# Altium integrated library Silicon Labs Clocks and Oscillators.IntLib: 678 symbols (part 19 of 45)
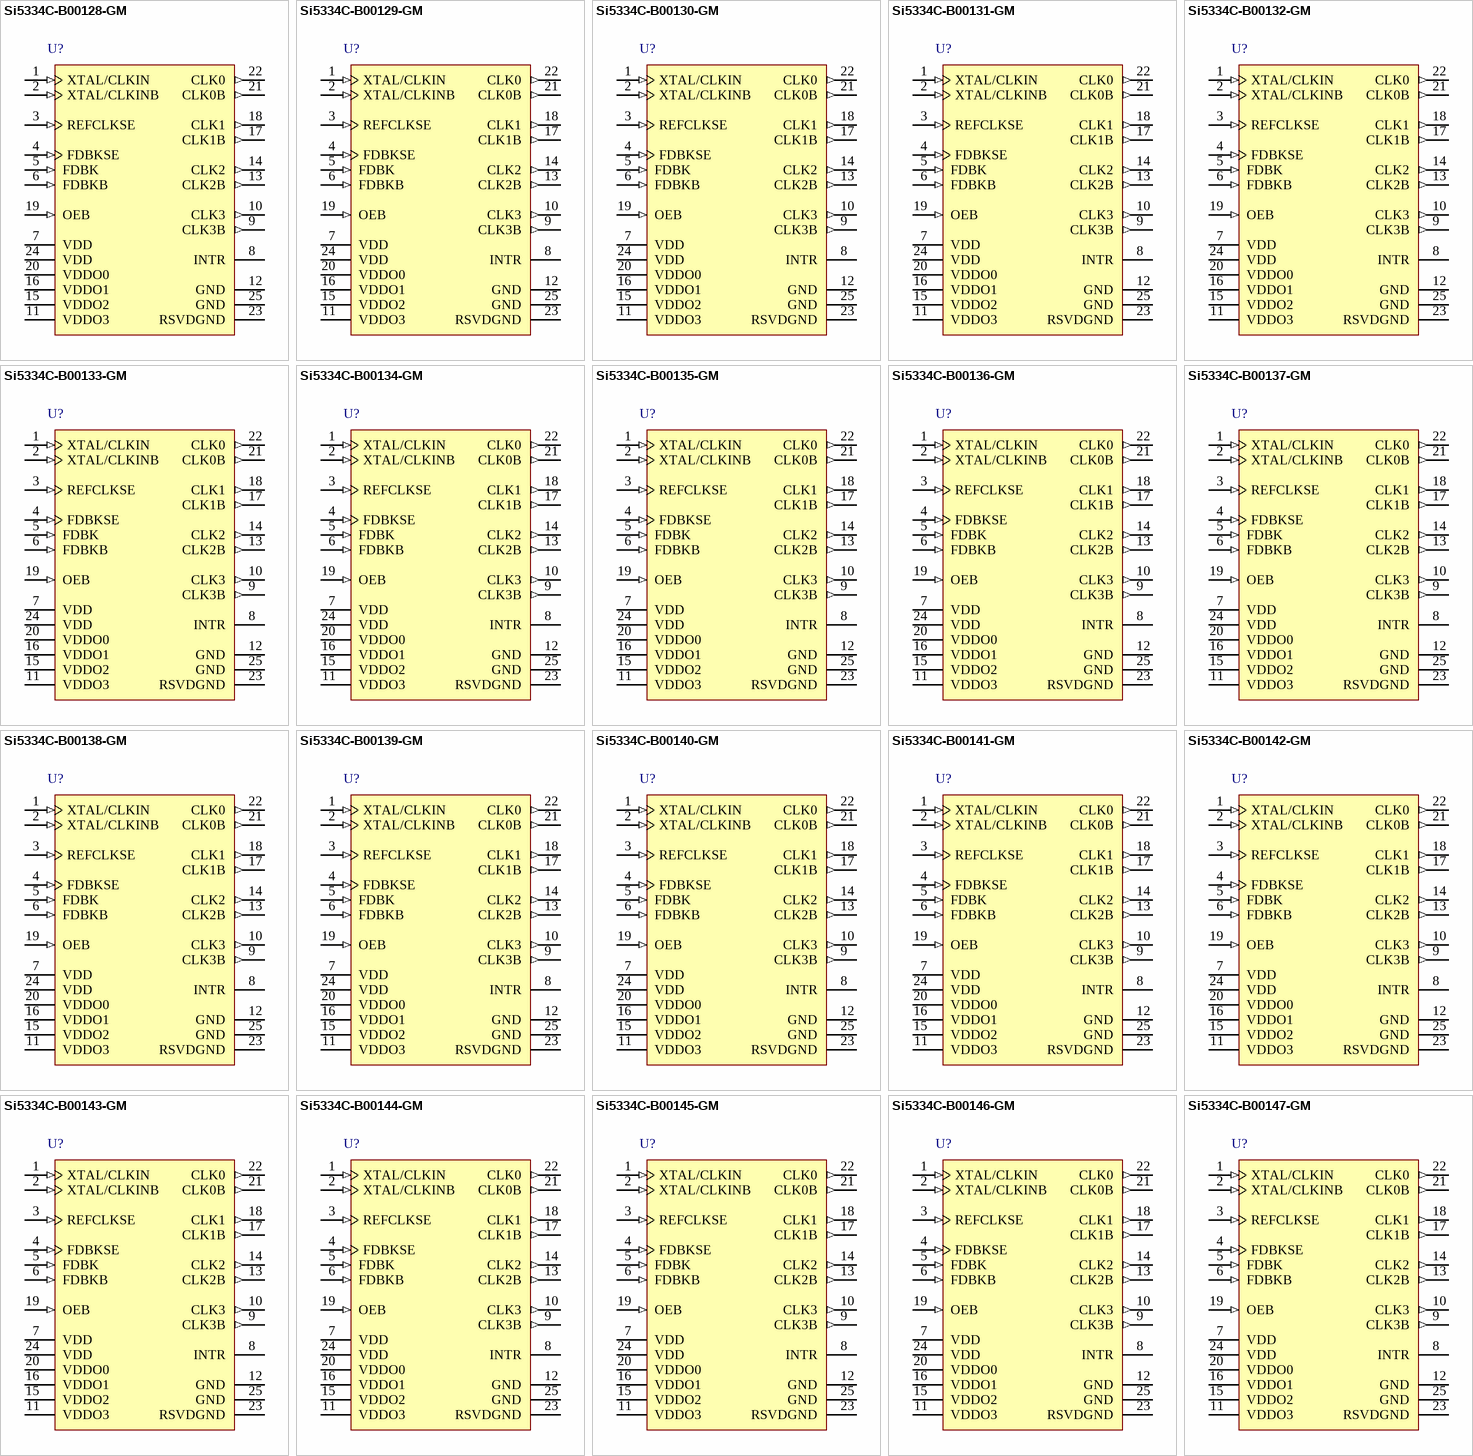
[diagram p62: symbols Si5334C-B00128-GM to Si5334C-B00147-GM]

## Si5334C-B00134-GM
designator U?
Pin-Controlled Any-Frequency, Any-Output Quad Clock Generator, 1.8 / 2.5 / 3.3 V, 0.16 to 200 MHz Output, -40 to 85 degC, 24-pin QFN; Manufacturer: Silicon Labs; PartNumber: Si5334C-B00134-GM; Output Format: LVPECL; LVDS; LVCMOS; HCSL; SSTL; HSTL; Reference Inputs: 1; VDD: 1.8 V; 2.5 V; 3.3 V; Sub-Family: Clock Generators; DatasheetVersion: Rev. 1.1; PackageReference: QFN-24; PackageDescription: 24-Pin Quad-Flat No-Leads Package, Body 4 x 4 mm, Pitch 0.5 mm; Output Frequency (MHz): 0.16 to 200; Mounting Technology: Surface Mount; Code_JEDEC: MO-220; Code_IPC: J-STD-020; ComponentLink1Description: Manufacturer URL; ComponentLink1URL: http://www.silabs.com/; ComponentLink2Description: Datasheet; ComponentLink2URL: http://www.silabs.com/Support%20Documents/TechnicalDocs/Si5334.pdf; ComponentLink3Description: Package Specification; ComponentLink3URL: http://www.silabs.com/Support%20Documents/TechnicalDocs/Si5330.pdf
footprint SLAB-QFN-24-2500x2500TP_N (QFN, 24-Leads, Body 4x4mm, Pitch 0.5mm, Thermal Pad 2.5x2.5mm, IPC Medium Density)
footprint SLAB-QFN-24-2500x2500TP_L (QFN, 24-Leads, Body 4x4mm, Pitch 0.5mm, Thermal Pad 2.5x2.5mm, IPC High Density)
footprint SLAB-QFN-24-2500x2500TP_M (QFN, 24-Leads, Body 4x4mm, Pitch 0.5mm, Thermal Pad 2.5x2.5mm, IPC Low Density)
pins: 1 XTAL/CLKIN (in) "These pins are used as the main differential clock input or as the XTAL input.", 2 XTAL/CLKINB (in) "These pins are used as the main differential clock input or as the XTAL input.", 3 REFCLKSE (in) "High impedance input for single-ended clock signals such as CMOS. The input should be dc-coupled.", 4 FDBKSE (in) "High Impedance input for single-ended clock signals, such as CMOS, when the zero delay mode of operation is required. This input should be dc-coupled.", 5 FDBK (in) "These pins form a differential input for feedback clock signals when a zero delay mode of operation is in effect. Always AC couple into these pins. When not is use leave FDBK unconnected and connect FDBKB to ground.", 6 FDBKB (in) "These pins form a differential input for feedback clock signals when a zero delay mode of operation is in effect. Always AC couple into these pins. When not is use leave FDBK unconnected and connect FDBKB to ground.", 7 VDD (power) "Core Supply Voltage", 8 INTR (oc), 9 CLK3B (out) "Output Clock B for Channel 3", 10 CLK3 (out), 11 VDDO3 (power) "Output Clock Supply Voltage", 12 GND (power) "Ground.", 13 CLK2B (out) "Output Clock B for Channel 2", 14 CLK2 (out), 15 VDDO2 (power) "Output Clock Supply Voltage.", 16 VDDO1 (power) "Output Clock Supply Voltage.", 17 CLK1B (out) "Output Clock B for Channel 1", 18 CLK1 (out), 19 OEB (in) "Output Enable Low", 20 VDDO0 (power) "Output Clock Supply Voltage.", 21 CLK0B (out) "Output Clock B for Channel 0", 22 CLK0 (out), 23 RSVDGND (power) "Ground.", 24 VDD (power) "Core Supply Voltage.", 25 GND (power) "Ground Pad."

## Si5334C-B00135-GM
designator U?
Pin-Controlled Any-Frequency, Any-Output Quad Clock Generator, 1.8 / 2.5 / 3.3 V, 0.16 to 200 MHz Output, -40 to 85 degC, 24-pin QFN; Manufacturer: Silicon Labs; PartNumber: Si5334C-B00135-GM; Output Format: LVPECL; LVDS; LVCMOS; HCSL; SSTL; HSTL; Reference Inputs: 1; VDD: 1.8 V; 2.5 V; 3.3 V; Sub-Family: Clock Generators; DatasheetVersion: Rev. 1.1; PackageReference: QFN-24; PackageDescription: 24-Pin Quad-Flat No-Leads Package, Body 4 x 4 mm, Pitch 0.5 mm; Output Frequency (MHz): 0.16 to 200; Mounting Technology: Surface Mount; Code_JEDEC: MO-220; Code_IPC: J-STD-020; ComponentLink1Description: Manufacturer URL; ComponentLink1URL: http://www.silabs.com/; ComponentLink2Description: Datasheet; ComponentLink2URL: http://www.silabs.com/Support%20Documents/TechnicalDocs/Si5334.pdf; ComponentLink3Description: Package Specification; ComponentLink3URL: http://www.silabs.com/Support%20Documents/TechnicalDocs/Si5330.pdf
footprint SLAB-QFN-24-2500x2500TP_N (QFN, 24-Leads, Body 4x4mm, Pitch 0.5mm, Thermal Pad 2.5x2.5mm, IPC Medium Density)
footprint SLAB-QFN-24-2500x2500TP_L (QFN, 24-Leads, Body 4x4mm, Pitch 0.5mm, Thermal Pad 2.5x2.5mm, IPC High Density)
footprint SLAB-QFN-24-2500x2500TP_M (QFN, 24-Leads, Body 4x4mm, Pitch 0.5mm, Thermal Pad 2.5x2.5mm, IPC Low Density)
pins: 1 XTAL/CLKIN (in) "These pins are used as the main differential clock input or as the XTAL input.", 2 XTAL/CLKINB (in) "These pins are used as the main differential clock input or as the XTAL input.", 3 REFCLKSE (in) "High impedance input for single-ended clock signals such as CMOS. The input should be dc-coupled.", 4 FDBKSE (in) "High Impedance input for single-ended clock signals, such as CMOS, when the zero delay mode of operation is required. This input should be dc-coupled.", 5 FDBK (in) "These pins form a differential input for feedback clock signals when a zero delay mode of operation is in effect. Always AC couple into these pins. When not is use leave FDBK unconnected and connect FDBKB to ground.", 6 FDBKB (in) "These pins form a differential input for feedback clock signals when a zero delay mode of operation is in effect. Always AC couple into these pins. When not is use leave FDBK unconnected and connect FDBKB to ground.", 7 VDD (power) "Core Supply Voltage", 8 INTR (oc), 9 CLK3B (out) "Output Clock B for Channel 3", 10 CLK3 (out), 11 VDDO3 (power) "Output Clock Supply Voltage", 12 GND (power) "Ground.", 13 CLK2B (out) "Output Clock B for Channel 2", 14 CLK2 (out), 15 VDDO2 (power) "Output Clock Supply Voltage.", 16 VDDO1 (power) "Output Clock Supply Voltage.", 17 CLK1B (out) "Output Clock B for Channel 1", 18 CLK1 (out), 19 OEB (in) "Output Enable Low", 20 VDDO0 (power) "Output Clock Supply Voltage.", 21 CLK0B (out) "Output Clock B for Channel 0", 22 CLK0 (out), 23 RSVDGND (power) "Ground.", 24 VDD (power) "Core Supply Voltage.", 25 GND (power) "Ground Pad."

## Si5334C-B00136-GM
designator U?
Pin-Controlled Any-Frequency, Any-Output Quad Clock Generator, 1.8 / 2.5 / 3.3 V, 0.16 to 200 MHz Output, -40 to 85 degC, 24-pin QFN; Manufacturer: Silicon Labs; PartNumber: Si5334C-B00136-GM; Output Format: LVPECL; LVDS; LVCMOS; HCSL; SSTL; HSTL; Reference Inputs: 1; VDD: 1.8 V; 2.5 V; 3.3 V; Sub-Family: Clock Generators; DatasheetVersion: Rev. 1.1; PackageReference: QFN-24; PackageDescription: 24-Pin Quad-Flat No-Leads Package, Body 4 x 4 mm, Pitch 0.5 mm; Output Frequency (MHz): 0.16 to 200; Mounting Technology: Surface Mount; Code_JEDEC: MO-220; Code_IPC: J-STD-020; ComponentLink1Description: Manufacturer URL; ComponentLink1URL: http://www.silabs.com/; ComponentLink2Description: Datasheet; ComponentLink2URL: http://www.silabs.com/Support%20Documents/TechnicalDocs/Si5334.pdf; ComponentLink3Description: Package Specification; ComponentLink3URL: http://www.silabs.com/Support%20Documents/TechnicalDocs/Si5330.pdf
footprint SLAB-QFN-24-2500x2500TP_N (QFN, 24-Leads, Body 4x4mm, Pitch 0.5mm, Thermal Pad 2.5x2.5mm, IPC Medium Density)
footprint SLAB-QFN-24-2500x2500TP_L (QFN, 24-Leads, Body 4x4mm, Pitch 0.5mm, Thermal Pad 2.5x2.5mm, IPC High Density)
footprint SLAB-QFN-24-2500x2500TP_M (QFN, 24-Leads, Body 4x4mm, Pitch 0.5mm, Thermal Pad 2.5x2.5mm, IPC Low Density)
pins: 1 XTAL/CLKIN (in) "These pins are used as the main differential clock input or as the XTAL input.", 2 XTAL/CLKINB (in) "These pins are used as the main differential clock input or as the XTAL input.", 3 REFCLKSE (in) "High impedance input for single-ended clock signals such as CMOS. The input should be dc-coupled.", 4 FDBKSE (in) "High Impedance input for single-ended clock signals, such as CMOS, when the zero delay mode of operation is required. This input should be dc-coupled.", 5 FDBK (in) "These pins form a differential input for feedback clock signals when a zero delay mode of operation is in effect. Always AC couple into these pins. When not is use leave FDBK unconnected and connect FDBKB to ground.", 6 FDBKB (in) "These pins form a differential input for feedback clock signals when a zero delay mode of operation is in effect. Always AC couple into these pins. When not is use leave FDBK unconnected and connect FDBKB to ground.", 7 VDD (power) "Core Supply Voltage", 8 INTR (oc), 9 CLK3B (out) "Output Clock B for Channel 3", 10 CLK3 (out), 11 VDDO3 (power) "Output Clock Supply Voltage", 12 GND (power) "Ground.", 13 CLK2B (out) "Output Clock B for Channel 2", 14 CLK2 (out), 15 VDDO2 (power) "Output Clock Supply Voltage.", 16 VDDO1 (power) "Output Clock Supply Voltage.", 17 CLK1B (out) "Output Clock B for Channel 1", 18 CLK1 (out), 19 OEB (in) "Output Enable Low", 20 VDDO0 (power) "Output Clock Supply Voltage.", 21 CLK0B (out) "Output Clock B for Channel 0", 22 CLK0 (out), 23 RSVDGND (power) "Ground.", 24 VDD (power) "Core Supply Voltage.", 25 GND (power) "Ground Pad."

## Si5334C-B00137-GM
designator U?
Pin-Controlled Any-Frequency, Any-Output Quad Clock Generator, 1.8 / 2.5 / 3.3 V, 0.16 to 200 MHz Output, -40 to 85 degC, 24-pin QFN; Manufacturer: Silicon Labs; PartNumber: Si5334C-B00137-GM; Output Format: LVPECL; LVDS; LVCMOS; HCSL; SSTL; HSTL; Reference Inputs: 1; VDD: 1.8 V; 2.5 V; 3.3 V; Sub-Family: Clock Generators; DatasheetVersion: Rev. 1.1; PackageReference: QFN-24; PackageDescription: 24-Pin Quad-Flat No-Leads Package, Body 4 x 4 mm, Pitch 0.5 mm; Output Frequency (MHz): 0.16 to 200; Mounting Technology: Surface Mount; Code_JEDEC: MO-220; Code_IPC: J-STD-020; ComponentLink1Description: Manufacturer URL; ComponentLink1URL: http://www.silabs.com/; ComponentLink2Description: Datasheet; ComponentLink2URL: http://www.silabs.com/Support%20Documents/TechnicalDocs/Si5334.pdf; ComponentLink3Description: Package Specification; ComponentLink3URL: http://www.silabs.com/Support%20Documents/TechnicalDocs/Si5330.pdf
footprint SLAB-QFN-24-2500x2500TP_N (QFN, 24-Leads, Body 4x4mm, Pitch 0.5mm, Thermal Pad 2.5x2.5mm, IPC Medium Density)
footprint SLAB-QFN-24-2500x2500TP_L (QFN, 24-Leads, Body 4x4mm, Pitch 0.5mm, Thermal Pad 2.5x2.5mm, IPC High Density)
footprint SLAB-QFN-24-2500x2500TP_M (QFN, 24-Leads, Body 4x4mm, Pitch 0.5mm, Thermal Pad 2.5x2.5mm, IPC Low Density)
pins: 1 XTAL/CLKIN (in) "These pins are used as the main differential clock input or as the XTAL input.", 2 XTAL/CLKINB (in) "These pins are used as the main differential clock input or as the XTAL input.", 3 REFCLKSE (in) "High impedance input for single-ended clock signals such as CMOS. The input should be dc-coupled.", 4 FDBKSE (in) "High Impedance input for single-ended clock signals, such as CMOS, when the zero delay mode of operation is required. This input should be dc-coupled.", 5 FDBK (in) "These pins form a differential input for feedback clock signals when a zero delay mode of operation is in effect. Always AC couple into these pins. When not is use leave FDBK unconnected and connect FDBKB to ground.", 6 FDBKB (in) "These pins form a differential input for feedback clock signals when a zero delay mode of operation is in effect. Always AC couple into these pins. When not is use leave FDBK unconnected and connect FDBKB to ground.", 7 VDD (power) "Core Supply Voltage", 8 INTR (oc), 9 CLK3B (out) "Output Clock B for Channel 3", 10 CLK3 (out), 11 VDDO3 (power) "Output Clock Supply Voltage", 12 GND (power) "Ground.", 13 CLK2B (out) "Output Clock B for Channel 2", 14 CLK2 (out), 15 VDDO2 (power) "Output Clock Supply Voltage.", 16 VDDO1 (power) "Output Clock Supply Voltage.", 17 CLK1B (out) "Output Clock B for Channel 1", 18 CLK1 (out), 19 OEB (in) "Output Enable Low", 20 VDDO0 (power) "Output Clock Supply Voltage.", 21 CLK0B (out) "Output Clock B for Channel 0", 22 CLK0 (out), 23 RSVDGND (power) "Ground.", 24 VDD (power) "Core Supply Voltage.", 25 GND (power) "Ground Pad."

## Si5334C-B00138-GM
designator U?
Pin-Controlled Any-Frequency, Any-Output Quad Clock Generator, 1.8 / 2.5 / 3.3 V, 0.16 to 200 MHz Output, -40 to 85 degC, 24-pin QFN; Manufacturer: Silicon Labs; PartNumber: Si5334C-B00138-GM; Output Format: LVPECL; LVDS; LVCMOS; HCSL; SSTL; HSTL; Reference Inputs: 1; VDD: 1.8 V; 2.5 V; 3.3 V; Sub-Family: Clock Generators; DatasheetVersion: Rev. 1.1; PackageReference: QFN-24; PackageDescription: 24-Pin Quad-Flat No-Leads Package, Body 4 x 4 mm, Pitch 0.5 mm; Output Frequency (MHz): 0.16 to 200; Mounting Technology: Surface Mount; Code_JEDEC: MO-220; Code_IPC: J-STD-020; ComponentLink1Description: Manufacturer URL; ComponentLink1URL: http://www.silabs.com/; ComponentLink2Description: Datasheet; ComponentLink2URL: http://www.silabs.com/Support%20Documents/TechnicalDocs/Si5334.pdf; ComponentLink3Description: Package Specification; ComponentLink3URL: http://www.silabs.com/Support%20Documents/TechnicalDocs/Si5330.pdf
footprint SLAB-QFN-24-2500x2500TP_N (QFN, 24-Leads, Body 4x4mm, Pitch 0.5mm, Thermal Pad 2.5x2.5mm, IPC Medium Density)
footprint SLAB-QFN-24-2500x2500TP_L (QFN, 24-Leads, Body 4x4mm, Pitch 0.5mm, Thermal Pad 2.5x2.5mm, IPC High Density)
footprint SLAB-QFN-24-2500x2500TP_M (QFN, 24-Leads, Body 4x4mm, Pitch 0.5mm, Thermal Pad 2.5x2.5mm, IPC Low Density)
pins: 1 XTAL/CLKIN (in) "These pins are used as the main differential clock input or as the XTAL input.", 2 XTAL/CLKINB (in) "These pins are used as the main differential clock input or as the XTAL input.", 3 REFCLKSE (in) "High impedance input for single-ended clock signals such as CMOS. The input should be dc-coupled.", 4 FDBKSE (in) "High Impedance input for single-ended clock signals, such as CMOS, when the zero delay mode of operation is required. This input should be dc-coupled.", 5 FDBK (in) "These pins form a differential input for feedback clock signals when a zero delay mode of operation is in effect. Always AC couple into these pins. When not is use leave FDBK unconnected and connect FDBKB to ground.", 6 FDBKB (in) "These pins form a differential input for feedback clock signals when a zero delay mode of operation is in effect. Always AC couple into these pins. When not is use leave FDBK unconnected and connect FDBKB to ground.", 7 VDD (power) "Core Supply Voltage", 8 INTR (oc), 9 CLK3B (out) "Output Clock B for Channel 3", 10 CLK3 (out), 11 VDDO3 (power) "Output Clock Supply Voltage", 12 GND (power) "Ground.", 13 CLK2B (out) "Output Clock B for Channel 2", 14 CLK2 (out), 15 VDDO2 (power) "Output Clock Supply Voltage.", 16 VDDO1 (power) "Output Clock Supply Voltage.", 17 CLK1B (out) "Output Clock B for Channel 1", 18 CLK1 (out), 19 OEB (in) "Output Enable Low", 20 VDDO0 (power) "Output Clock Supply Voltage.", 21 CLK0B (out) "Output Clock B for Channel 0", 22 CLK0 (out), 23 RSVDGND (power) "Ground.", 24 VDD (power) "Core Supply Voltage.", 25 GND (power) "Ground Pad."

## Si5334C-B00139-GM
designator U?
Pin-Controlled Any-Frequency, Any-Output Quad Clock Generator, 1.8 / 2.5 / 3.3 V, 0.16 to 200 MHz Output, -40 to 85 degC, 24-pin QFN; Manufacturer: Silicon Labs; PartNumber: Si5334C-B00139-GM; Output Format: LVPECL; LVDS; LVCMOS; HCSL; SSTL; HSTL; Reference Inputs: 1; VDD: 1.8 V; 2.5 V; 3.3 V; Sub-Family: Clock Generators; DatasheetVersion: Rev. 1.1; PackageReference: QFN-24; PackageDescription: 24-Pin Quad-Flat No-Leads Package, Body 4 x 4 mm, Pitch 0.5 mm; Output Frequency (MHz): 0.16 to 200; Mounting Technology: Surface Mount; Code_JEDEC: MO-220; Code_IPC: J-STD-020; ComponentLink1Description: Manufacturer URL; ComponentLink1URL: http://www.silabs.com/; ComponentLink2Description: Datasheet; ComponentLink2URL: http://www.silabs.com/Support%20Documents/TechnicalDocs/Si5334.pdf; ComponentLink3Description: Package Specification; ComponentLink3URL: http://www.silabs.com/Support%20Documents/TechnicalDocs/Si5330.pdf
footprint SLAB-QFN-24-2500x2500TP_N (QFN, 24-Leads, Body 4x4mm, Pitch 0.5mm, Thermal Pad 2.5x2.5mm, IPC Medium Density)
footprint SLAB-QFN-24-2500x2500TP_L (QFN, 24-Leads, Body 4x4mm, Pitch 0.5mm, Thermal Pad 2.5x2.5mm, IPC High Density)
footprint SLAB-QFN-24-2500x2500TP_M (QFN, 24-Leads, Body 4x4mm, Pitch 0.5mm, Thermal Pad 2.5x2.5mm, IPC Low Density)
pins: 1 XTAL/CLKIN (in) "These pins are used as the main differential clock input or as the XTAL input.", 2 XTAL/CLKINB (in) "These pins are used as the main differential clock input or as the XTAL input.", 3 REFCLKSE (in) "High impedance input for single-ended clock signals such as CMOS. The input should be dc-coupled.", 4 FDBKSE (in) "High Impedance input for single-ended clock signals, such as CMOS, when the zero delay mode of operation is required. This input should be dc-coupled.", 5 FDBK (in) "These pins form a differential input for feedback clock signals when a zero delay mode of operation is in effect. Always AC couple into these pins. When not is use leave FDBK unconnected and connect FDBKB to ground.", 6 FDBKB (in) "These pins form a differential input for feedback clock signals when a zero delay mode of operation is in effect. Always AC couple into these pins. When not is use leave FDBK unconnected and connect FDBKB to ground.", 7 VDD (power) "Core Supply Voltage", 8 INTR (oc), 9 CLK3B (out) "Output Clock B for Channel 3", 10 CLK3 (out), 11 VDDO3 (power) "Output Clock Supply Voltage", 12 GND (power) "Ground.", 13 CLK2B (out) "Output Clock B for Channel 2", 14 CLK2 (out), 15 VDDO2 (power) "Output Clock Supply Voltage.", 16 VDDO1 (power) "Output Clock Supply Voltage.", 17 CLK1B (out) "Output Clock B for Channel 1", 18 CLK1 (out), 19 OEB (in) "Output Enable Low", 20 VDDO0 (power) "Output Clock Supply Voltage.", 21 CLK0B (out) "Output Clock B for Channel 0", 22 CLK0 (out), 23 RSVDGND (power) "Ground.", 24 VDD (power) "Core Supply Voltage.", 25 GND (power) "Ground Pad."

## Si5334C-B00140-GM
designator U?
Pin-Controlled Any-Frequency, Any-Output Quad Clock Generator, 1.8 / 2.5 / 3.3 V, 0.16 to 200 MHz Output, -40 to 85 degC, 24-pin QFN; Manufacturer: Silicon Labs; PartNumber: Si5334C-B00140-GM; Output Format: LVPECL; LVDS; LVCMOS; HCSL; SSTL; HSTL; Reference Inputs: 1; VDD: 1.8 V; 2.5 V; 3.3 V; Sub-Family: Clock Generators; DatasheetVersion: Rev. 1.1; PackageReference: QFN-24; PackageDescription: 24-Pin Quad-Flat No-Leads Package, Body 4 x 4 mm, Pitch 0.5 mm; Output Frequency (MHz): 0.16 to 200; Mounting Technology: Surface Mount; Code_JEDEC: MO-220; Code_IPC: J-STD-020; ComponentLink1Description: Manufacturer URL; ComponentLink1URL: http://www.silabs.com/; ComponentLink2Description: Datasheet; ComponentLink2URL: http://www.silabs.com/Support%20Documents/TechnicalDocs/Si5334.pdf; ComponentLink3Description: Package Specification; ComponentLink3URL: http://www.silabs.com/Support%20Documents/TechnicalDocs/Si5330.pdf
footprint SLAB-QFN-24-2500x2500TP_N (QFN, 24-Leads, Body 4x4mm, Pitch 0.5mm, Thermal Pad 2.5x2.5mm, IPC Medium Density)
footprint SLAB-QFN-24-2500x2500TP_L (QFN, 24-Leads, Body 4x4mm, Pitch 0.5mm, Thermal Pad 2.5x2.5mm, IPC High Density)
footprint SLAB-QFN-24-2500x2500TP_M (QFN, 24-Leads, Body 4x4mm, Pitch 0.5mm, Thermal Pad 2.5x2.5mm, IPC Low Density)
pins: 1 XTAL/CLKIN (in) "These pins are used as the main differential clock input or as the XTAL input.", 2 XTAL/CLKINB (in) "These pins are used as the main differential clock input or as the XTAL input.", 3 REFCLKSE (in) "High impedance input for single-ended clock signals such as CMOS. The input should be dc-coupled.", 4 FDBKSE (in) "High Impedance input for single-ended clock signals, such as CMOS, when the zero delay mode of operation is required. This input should be dc-coupled.", 5 FDBK (in) "These pins form a differential input for feedback clock signals when a zero delay mode of operation is in effect. Always AC couple into these pins. When not is use leave FDBK unconnected and connect FDBKB to ground.", 6 FDBKB (in) "These pins form a differential input for feedback clock signals when a zero delay mode of operation is in effect. Always AC couple into these pins. When not is use leave FDBK unconnected and connect FDBKB to ground.", 7 VDD (power) "Core Supply Voltage", 8 INTR (oc), 9 CLK3B (out) "Output Clock B for Channel 3", 10 CLK3 (out), 11 VDDO3 (power) "Output Clock Supply Voltage", 12 GND (power) "Ground.", 13 CLK2B (out) "Output Clock B for Channel 2", 14 CLK2 (out), 15 VDDO2 (power) "Output Clock Supply Voltage.", 16 VDDO1 (power) "Output Clock Supply Voltage.", 17 CLK1B (out) "Output Clock B for Channel 1", 18 CLK1 (out), 19 OEB (in) "Output Enable Low", 20 VDDO0 (power) "Output Clock Supply Voltage.", 21 CLK0B (out) "Output Clock B for Channel 0", 22 CLK0 (out), 23 RSVDGND (power) "Ground.", 24 VDD (power) "Core Supply Voltage.", 25 GND (power) "Ground Pad."

## Si5334C-B00141-GM
designator U?
Pin-Controlled Any-Frequency, Any-Output Quad Clock Generator, 1.8 / 2.5 / 3.3 V, 0.16 to 200 MHz Output, -40 to 85 degC, 24-pin QFN; Manufacturer: Silicon Labs; PartNumber: Si5334C-B00141-GM; Output Format: LVPECL; LVDS; LVCMOS; HCSL; SSTL; HSTL; Reference Inputs: 1; VDD: 1.8 V; 2.5 V; 3.3 V; Sub-Family: Clock Generators; DatasheetVersion: Rev. 1.1; PackageReference: QFN-24; PackageDescription: 24-Pin Quad-Flat No-Leads Package, Body 4 x 4 mm, Pitch 0.5 mm; Output Frequency (MHz): 0.16 to 200; Mounting Technology: Surface Mount; Code_JEDEC: MO-220; Code_IPC: J-STD-020; ComponentLink1Description: Manufacturer URL; ComponentLink1URL: http://www.silabs.com/; ComponentLink2Description: Datasheet; ComponentLink2URL: http://www.silabs.com/Support%20Documents/TechnicalDocs/Si5334.pdf; ComponentLink3Description: Package Specification; ComponentLink3URL: http://www.silabs.com/Support%20Documents/TechnicalDocs/Si5330.pdf
footprint SLAB-QFN-24-2500x2500TP_N (QFN, 24-Leads, Body 4x4mm, Pitch 0.5mm, Thermal Pad 2.5x2.5mm, IPC Medium Density)
footprint SLAB-QFN-24-2500x2500TP_L (QFN, 24-Leads, Body 4x4mm, Pitch 0.5mm, Thermal Pad 2.5x2.5mm, IPC High Density)
footprint SLAB-QFN-24-2500x2500TP_M (QFN, 24-Leads, Body 4x4mm, Pitch 0.5mm, Thermal Pad 2.5x2.5mm, IPC Low Density)
pins: 1 XTAL/CLKIN (in) "These pins are used as the main differential clock input or as the XTAL input.", 2 XTAL/CLKINB (in) "These pins are used as the main differential clock input or as the XTAL input.", 3 REFCLKSE (in) "High impedance input for single-ended clock signals such as CMOS. The input should be dc-coupled.", 4 FDBKSE (in) "High Impedance input for single-ended clock signals, such as CMOS, when the zero delay mode of operation is required. This input should be dc-coupled.", 5 FDBK (in) "These pins form a differential input for feedback clock signals when a zero delay mode of operation is in effect. Always AC couple into these pins. When not is use leave FDBK unconnected and connect FDBKB to ground.", 6 FDBKB (in) "These pins form a differential input for feedback clock signals when a zero delay mode of operation is in effect. Always AC couple into these pins. When not is use leave FDBK unconnected and connect FDBKB to ground.", 7 VDD (power) "Core Supply Voltage", 8 INTR (oc), 9 CLK3B (out) "Output Clock B for Channel 3", 10 CLK3 (out), 11 VDDO3 (power) "Output Clock Supply Voltage", 12 GND (power) "Ground.", 13 CLK2B (out) "Output Clock B for Channel 2", 14 CLK2 (out), 15 VDDO2 (power) "Output Clock Supply Voltage.", 16 VDDO1 (power) "Output Clock Supply Voltage.", 17 CLK1B (out) "Output Clock B for Channel 1", 18 CLK1 (out), 19 OEB (in) "Output Enable Low", 20 VDDO0 (power) "Output Clock Supply Voltage.", 21 CLK0B (out) "Output Clock B for Channel 0", 22 CLK0 (out), 23 RSVDGND (power) "Ground.", 24 VDD (power) "Core Supply Voltage.", 25 GND (power) "Ground Pad."

## Si5334C-B00142-GM
designator U?
Pin-Controlled Any-Frequency, Any-Output Quad Clock Generator, 1.8 / 2.5 / 3.3 V, 0.16 to 200 MHz Output, -40 to 85 degC, 24-pin QFN; Manufacturer: Silicon Labs; PartNumber: Si5334C-B00142-GM; Output Format: LVPECL; LVDS; LVCMOS; HCSL; SSTL; HSTL; Reference Inputs: 1; VDD: 1.8 V; 2.5 V; 3.3 V; Sub-Family: Clock Generators; DatasheetVersion: Rev. 1.1; PackageReference: QFN-24; PackageDescription: 24-Pin Quad-Flat No-Leads Package, Body 4 x 4 mm, Pitch 0.5 mm; Output Frequency (MHz): 0.16 to 200; Mounting Technology: Surface Mount; Code_JEDEC: MO-220; Code_IPC: J-STD-020; ComponentLink1Description: Manufacturer URL; ComponentLink1URL: http://www.silabs.com/; ComponentLink2Description: Datasheet; ComponentLink2URL: http://www.silabs.com/Support%20Documents/TechnicalDocs/Si5334.pdf; ComponentLink3Description: Package Specification; ComponentLink3URL: http://www.silabs.com/Support%20Documents/TechnicalDocs/Si5330.pdf
footprint SLAB-QFN-24-2500x2500TP_N (QFN, 24-Leads, Body 4x4mm, Pitch 0.5mm, Thermal Pad 2.5x2.5mm, IPC Medium Density)
footprint SLAB-QFN-24-2500x2500TP_L (QFN, 24-Leads, Body 4x4mm, Pitch 0.5mm, Thermal Pad 2.5x2.5mm, IPC High Density)
footprint SLAB-QFN-24-2500x2500TP_M (QFN, 24-Leads, Body 4x4mm, Pitch 0.5mm, Thermal Pad 2.5x2.5mm, IPC Low Density)
pins: 1 XTAL/CLKIN (in) "These pins are used as the main differential clock input or as the XTAL input.", 2 XTAL/CLKINB (in) "These pins are used as the main differential clock input or as the XTAL input.", 3 REFCLKSE (in) "High impedance input for single-ended clock signals such as CMOS. The input should be dc-coupled.", 4 FDBKSE (in) "High Impedance input for single-ended clock signals, such as CMOS, when the zero delay mode of operation is required. This input should be dc-coupled.", 5 FDBK (in) "These pins form a differential input for feedback clock signals when a zero delay mode of operation is in effect. Always AC couple into these pins. When not is use leave FDBK unconnected and connect FDBKB to ground.", 6 FDBKB (in) "These pins form a differential input for feedback clock signals when a zero delay mode of operation is in effect. Always AC couple into these pins. When not is use leave FDBK unconnected and connect FDBKB to ground.", 7 VDD (power) "Core Supply Voltage", 8 INTR (oc), 9 CLK3B (out) "Output Clock B for Channel 3", 10 CLK3 (out), 11 VDDO3 (power) "Output Clock Supply Voltage", 12 GND (power) "Ground.", 13 CLK2B (out) "Output Clock B for Channel 2", 14 CLK2 (out), 15 VDDO2 (power) "Output Clock Supply Voltage.", 16 VDDO1 (power) "Output Clock Supply Voltage.", 17 CLK1B (out) "Output Clock B for Channel 1", 18 CLK1 (out), 19 OEB (in) "Output Enable Low", 20 VDDO0 (power) "Output Clock Supply Voltage.", 21 CLK0B (out) "Output Clock B for Channel 0", 22 CLK0 (out), 23 RSVDGND (power) "Ground.", 24 VDD (power) "Core Supply Voltage.", 25 GND (power) "Ground Pad."

## Si5334C-B00143-GM
designator U?
Pin-Controlled Any-Frequency, Any-Output Quad Clock Generator, 1.8 / 2.5 / 3.3 V, 0.16 to 200 MHz Output, -40 to 85 degC, 24-pin QFN; Manufacturer: Silicon Labs; PartNumber: Si5334C-B00143-GM; Output Format: LVPECL; LVDS; LVCMOS; HCSL; SSTL; HSTL; Reference Inputs: 1; VDD: 1.8 V; 2.5 V; 3.3 V; Sub-Family: Clock Generators; DatasheetVersion: Rev. 1.1; PackageReference: QFN-24; PackageDescription: 24-Pin Quad-Flat No-Leads Package, Body 4 x 4 mm, Pitch 0.5 mm; Output Frequency (MHz): 0.16 to 200; Mounting Technology: Surface Mount; Code_JEDEC: MO-220; Code_IPC: J-STD-020; ComponentLink1Description: Manufacturer URL; ComponentLink1URL: http://www.silabs.com/; ComponentLink2Description: Datasheet; ComponentLink2URL: http://www.silabs.com/Support%20Documents/TechnicalDocs/Si5334.pdf; ComponentLink3Description: Package Specification; ComponentLink3URL: http://www.silabs.com/Support%20Documents/TechnicalDocs/Si5330.pdf
footprint SLAB-QFN-24-2500x2500TP_N (QFN, 24-Leads, Body 4x4mm, Pitch 0.5mm, Thermal Pad 2.5x2.5mm, IPC Medium Density)
footprint SLAB-QFN-24-2500x2500TP_L (QFN, 24-Leads, Body 4x4mm, Pitch 0.5mm, Thermal Pad 2.5x2.5mm, IPC High Density)
footprint SLAB-QFN-24-2500x2500TP_M (QFN, 24-Leads, Body 4x4mm, Pitch 0.5mm, Thermal Pad 2.5x2.5mm, IPC Low Density)
pins: 1 XTAL/CLKIN (in) "These pins are used as the main differential clock input or as the XTAL input.", 2 XTAL/CLKINB (in) "These pins are used as the main differential clock input or as the XTAL input.", 3 REFCLKSE (in) "High impedance input for single-ended clock signals such as CMOS. The input should be dc-coupled.", 4 FDBKSE (in) "High Impedance input for single-ended clock signals, such as CMOS, when the zero delay mode of operation is required. This input should be dc-coupled.", 5 FDBK (in) "These pins form a differential input for feedback clock signals when a zero delay mode of operation is in effect. Always AC couple into these pins. When not is use leave FDBK unconnected and connect FDBKB to ground.", 6 FDBKB (in) "These pins form a differential input for feedback clock signals when a zero delay mode of operation is in effect. Always AC couple into these pins. When not is use leave FDBK unconnected and connect FDBKB to ground.", 7 VDD (power) "Core Supply Voltage", 8 INTR (oc), 9 CLK3B (out) "Output Clock B for Channel 3", 10 CLK3 (out), 11 VDDO3 (power) "Output Clock Supply Voltage", 12 GND (power) "Ground.", 13 CLK2B (out) "Output Clock B for Channel 2", 14 CLK2 (out), 15 VDDO2 (power) "Output Clock Supply Voltage.", 16 VDDO1 (power) "Output Clock Supply Voltage.", 17 CLK1B (out) "Output Clock B for Channel 1", 18 CLK1 (out), 19 OEB (in) "Output Enable Low", 20 VDDO0 (power) "Output Clock Supply Voltage.", 21 CLK0B (out) "Output Clock B for Channel 0", 22 CLK0 (out), 23 RSVDGND (power) "Ground.", 24 VDD (power) "Core Supply Voltage.", 25 GND (power) "Ground Pad."

## Si5334C-B00144-GM
designator U?
Pin-Controlled Any-Frequency, Any-Output Quad Clock Generator, 1.8 / 2.5 / 3.3 V, 0.16 to 200 MHz Output, -40 to 85 degC, 24-pin QFN; Manufacturer: Silicon Labs; PartNumber: Si5334C-B00144-GM; Output Format: LVPECL; LVDS; LVCMOS; HCSL; SSTL; HSTL; Reference Inputs: 1; VDD: 1.8 V; 2.5 V; 3.3 V; Sub-Family: Clock Generators; DatasheetVersion: Rev. 1.1; PackageReference: QFN-24; PackageDescription: 24-Pin Quad-Flat No-Leads Package, Body 4 x 4 mm, Pitch 0.5 mm; Output Frequency (MHz): 0.16 to 200; Mounting Technology: Surface Mount; Code_JEDEC: MO-220; Code_IPC: J-STD-020; ComponentLink1Description: Manufacturer URL; ComponentLink1URL: http://www.silabs.com/; ComponentLink2Description: Datasheet; ComponentLink2URL: http://www.silabs.com/Support%20Documents/TechnicalDocs/Si5334.pdf; ComponentLink3Description: Package Specification; ComponentLink3URL: http://www.silabs.com/Support%20Documents/TechnicalDocs/Si5330.pdf
footprint SLAB-QFN-24-2500x2500TP_N (QFN, 24-Leads, Body 4x4mm, Pitch 0.5mm, Thermal Pad 2.5x2.5mm, IPC Medium Density)
footprint SLAB-QFN-24-2500x2500TP_L (QFN, 24-Leads, Body 4x4mm, Pitch 0.5mm, Thermal Pad 2.5x2.5mm, IPC High Density)
footprint SLAB-QFN-24-2500x2500TP_M (QFN, 24-Leads, Body 4x4mm, Pitch 0.5mm, Thermal Pad 2.5x2.5mm, IPC Low Density)
pins: 1 XTAL/CLKIN (in) "These pins are used as the main differential clock input or as the XTAL input.", 2 XTAL/CLKINB (in) "These pins are used as the main differential clock input or as the XTAL input.", 3 REFCLKSE (in) "High impedance input for single-ended clock signals such as CMOS. The input should be dc-coupled.", 4 FDBKSE (in) "High Impedance input for single-ended clock signals, such as CMOS, when the zero delay mode of operation is required. This input should be dc-coupled.", 5 FDBK (in) "These pins form a differential input for feedback clock signals when a zero delay mode of operation is in effect. Always AC couple into these pins. When not is use leave FDBK unconnected and connect FDBKB to ground.", 6 FDBKB (in) "These pins form a differential input for feedback clock signals when a zero delay mode of operation is in effect. Always AC couple into these pins. When not is use leave FDBK unconnected and connect FDBKB to ground.", 7 VDD (power) "Core Supply Voltage", 8 INTR (oc), 9 CLK3B (out) "Output Clock B for Channel 3", 10 CLK3 (out), 11 VDDO3 (power) "Output Clock Supply Voltage", 12 GND (power) "Ground.", 13 CLK2B (out) "Output Clock B for Channel 2", 14 CLK2 (out), 15 VDDO2 (power) "Output Clock Supply Voltage.", 16 VDDO1 (power) "Output Clock Supply Voltage.", 17 CLK1B (out) "Output Clock B for Channel 1", 18 CLK1 (out), 19 OEB (in) "Output Enable Low", 20 VDDO0 (power) "Output Clock Supply Voltage.", 21 CLK0B (out) "Output Clock B for Channel 0", 22 CLK0 (out), 23 RSVDGND (power) "Ground.", 24 VDD (power) "Core Supply Voltage.", 25 GND (power) "Ground Pad."

## Si5334C-B00145-GM
designator U?
Pin-Controlled Any-Frequency, Any-Output Quad Clock Generator, 1.8 / 2.5 / 3.3 V, 0.16 to 200 MHz Output, -40 to 85 degC, 24-pin QFN; Manufacturer: Silicon Labs; PartNumber: Si5334C-B00145-GM; Output Format: LVPECL; LVDS; LVCMOS; HCSL; SSTL; HSTL; Reference Inputs: 1; VDD: 1.8 V; 2.5 V; 3.3 V; Sub-Family: Clock Generators; DatasheetVersion: Rev. 1.1; PackageReference: QFN-24; PackageDescription: 24-Pin Quad-Flat No-Leads Package, Body 4 x 4 mm, Pitch 0.5 mm; Output Frequency (MHz): 0.16 to 200; Mounting Technology: Surface Mount; Code_JEDEC: MO-220; Code_IPC: J-STD-020; ComponentLink1Description: Manufacturer URL; ComponentLink1URL: http://www.silabs.com/; ComponentLink2Description: Datasheet; ComponentLink2URL: http://www.silabs.com/Support%20Documents/TechnicalDocs/Si5334.pdf; ComponentLink3Description: Package Specification; ComponentLink3URL: http://www.silabs.com/Support%20Documents/TechnicalDocs/Si5330.pdf
footprint SLAB-QFN-24-2500x2500TP_N (QFN, 24-Leads, Body 4x4mm, Pitch 0.5mm, Thermal Pad 2.5x2.5mm, IPC Medium Density)
footprint SLAB-QFN-24-2500x2500TP_L (QFN, 24-Leads, Body 4x4mm, Pitch 0.5mm, Thermal Pad 2.5x2.5mm, IPC High Density)
footprint SLAB-QFN-24-2500x2500TP_M (QFN, 24-Leads, Body 4x4mm, Pitch 0.5mm, Thermal Pad 2.5x2.5mm, IPC Low Density)
pins: 1 XTAL/CLKIN (in) "These pins are used as the main differential clock input or as the XTAL input.", 2 XTAL/CLKINB (in) "These pins are used as the main differential clock input or as the XTAL input.", 3 REFCLKSE (in) "High impedance input for single-ended clock signals such as CMOS. The input should be dc-coupled.", 4 FDBKSE (in) "High Impedance input for single-ended clock signals, such as CMOS, when the zero delay mode of operation is required. This input should be dc-coupled.", 5 FDBK (in) "These pins form a differential input for feedback clock signals when a zero delay mode of operation is in effect. Always AC couple into these pins. When not is use leave FDBK unconnected and connect FDBKB to ground.", 6 FDBKB (in) "These pins form a differential input for feedback clock signals when a zero delay mode of operation is in effect. Always AC couple into these pins. When not is use leave FDBK unconnected and connect FDBKB to ground.", 7 VDD (power) "Core Supply Voltage", 8 INTR (oc), 9 CLK3B (out) "Output Clock B for Channel 3", 10 CLK3 (out), 11 VDDO3 (power) "Output Clock Supply Voltage", 12 GND (power) "Ground.", 13 CLK2B (out) "Output Clock B for Channel 2", 14 CLK2 (out), 15 VDDO2 (power) "Output Clock Supply Voltage.", 16 VDDO1 (power) "Output Clock Supply Voltage.", 17 CLK1B (out) "Output Clock B for Channel 1", 18 CLK1 (out), 19 OEB (in) "Output Enable Low", 20 VDDO0 (power) "Output Clock Supply Voltage.", 21 CLK0B (out) "Output Clock B for Channel 0", 22 CLK0 (out), 23 RSVDGND (power) "Ground.", 24 VDD (power) "Core Supply Voltage.", 25 GND (power) "Ground Pad."

## Si5334C-B00146-GM
designator U?
Pin-Controlled Any-Frequency, Any-Output Quad Clock Generator, 1.8 / 2.5 / 3.3 V, 0.16 to 200 MHz Output, -40 to 85 degC, 24-pin QFN; Manufacturer: Silicon Labs; PartNumber: Si5334C-B00146-GM; Output Format: LVPECL; LVDS; LVCMOS; HCSL; SSTL; HSTL; Reference Inputs: 1; VDD: 1.8 V; 2.5 V; 3.3 V; Sub-Family: Clock Generators; DatasheetVersion: Rev. 1.1; PackageReference: QFN-24; PackageDescription: 24-Pin Quad-Flat No-Leads Package, Body 4 x 4 mm, Pitch 0.5 mm; Output Frequency (MHz): 0.16 to 200; Mounting Technology: Surface Mount; Code_JEDEC: MO-220; Code_IPC: J-STD-020; ComponentLink1Description: Manufacturer URL; ComponentLink1URL: http://www.silabs.com/; ComponentLink2Description: Datasheet; ComponentLink2URL: http://www.silabs.com/Support%20Documents/TechnicalDocs/Si5334.pdf; ComponentLink3Description: Package Specification; ComponentLink3URL: http://www.silabs.com/Support%20Documents/TechnicalDocs/Si5330.pdf
footprint SLAB-QFN-24-2500x2500TP_N (QFN, 24-Leads, Body 4x4mm, Pitch 0.5mm, Thermal Pad 2.5x2.5mm, IPC Medium Density)
footprint SLAB-QFN-24-2500x2500TP_L (QFN, 24-Leads, Body 4x4mm, Pitch 0.5mm, Thermal Pad 2.5x2.5mm, IPC High Density)
footprint SLAB-QFN-24-2500x2500TP_M (QFN, 24-Leads, Body 4x4mm, Pitch 0.5mm, Thermal Pad 2.5x2.5mm, IPC Low Density)
pins: 1 XTAL/CLKIN (in) "These pins are used as the main differential clock input or as the XTAL input.", 2 XTAL/CLKINB (in) "These pins are used as the main differential clock input or as the XTAL input.", 3 REFCLKSE (in) "High impedance input for single-ended clock signals such as CMOS. The input should be dc-coupled.", 4 FDBKSE (in) "High Impedance input for single-ended clock signals, such as CMOS, when the zero delay mode of operation is required. This input should be dc-coupled.", 5 FDBK (in) "These pins form a differential input for feedback clock signals when a zero delay mode of operation is in effect. Always AC couple into these pins. When not is use leave FDBK unconnected and connect FDBKB to ground.", 6 FDBKB (in) "These pins form a differential input for feedback clock signals when a zero delay mode of operation is in effect. Always AC couple into these pins. When not is use leave FDBK unconnected and connect FDBKB to ground.", 7 VDD (power) "Core Supply Voltage", 8 INTR (oc), 9 CLK3B (out) "Output Clock B for Channel 3", 10 CLK3 (out), 11 VDDO3 (power) "Output Clock Supply Voltage", 12 GND (power) "Ground.", 13 CLK2B (out) "Output Clock B for Channel 2", 14 CLK2 (out), 15 VDDO2 (power) "Output Clock Supply Voltage.", 16 VDDO1 (power) "Output Clock Supply Voltage.", 17 CLK1B (out) "Output Clock B for Channel 1", 18 CLK1 (out), 19 OEB (in) "Output Enable Low", 20 VDDO0 (power) "Output Clock Supply Voltage.", 21 CLK0B (out) "Output Clock B for Channel 0", 22 CLK0 (out), 23 RSVDGND (power) "Ground.", 24 VDD (power) "Core Supply Voltage.", 25 GND (power) "Ground Pad."

## Si5334C-B00147-GM
designator U?
Pin-Controlled Any-Frequency, Any-Output Quad Clock Generator, 1.8 / 2.5 / 3.3 V, 0.16 to 200 MHz Output, -40 to 85 degC, 24-pin QFN; Manufacturer: Silicon Labs; PartNumber: Si5334C-B00147-GM; Output Format: LVPECL; LVDS; LVCMOS; HCSL; SSTL; HSTL; Reference Inputs: 1; VDD: 1.8 V; 2.5 V; 3.3 V; Sub-Family: Clock Generators; DatasheetVersion: Rev. 1.1; PackageReference: QFN-24; PackageDescription: 24-Pin Quad-Flat No-Leads Package, Body 4 x 4 mm, Pitch 0.5 mm; Output Frequency (MHz): 0.16 to 200; Mounting Technology: Surface Mount; Code_JEDEC: MO-220; Code_IPC: J-STD-020; ComponentLink1Description: Manufacturer URL; ComponentLink1URL: http://www.silabs.com/; ComponentLink2Description: Datasheet; ComponentLink2URL: http://www.silabs.com/Support%20Documents/TechnicalDocs/Si5334.pdf; ComponentLink3Description: Package Specification; ComponentLink3URL: http://www.silabs.com/Support%20Documents/TechnicalDocs/Si5330.pdf
footprint SLAB-QFN-24-2500x2500TP_N (QFN, 24-Leads, Body 4x4mm, Pitch 0.5mm, Thermal Pad 2.5x2.5mm, IPC Medium Density)
footprint SLAB-QFN-24-2500x2500TP_L (QFN, 24-Leads, Body 4x4mm, Pitch 0.5mm, Thermal Pad 2.5x2.5mm, IPC High Density)
footprint SLAB-QFN-24-2500x2500TP_M (QFN, 24-Leads, Body 4x4mm, Pitch 0.5mm, Thermal Pad 2.5x2.5mm, IPC Low Density)
pins: 1 XTAL/CLKIN (in) "These pins are used as the main differential clock input or as the XTAL input.", 2 XTAL/CLKINB (in) "These pins are used as the main differential clock input or as the XTAL input.", 3 REFCLKSE (in) "High impedance input for single-ended clock signals such as CMOS. The input should be dc-coupled.", 4 FDBKSE (in) "High Impedance input for single-ended clock signals, such as CMOS, when the zero delay mode of operation is required. This input should be dc-coupled.", 5 FDBK (in) "These pins form a differential input for feedback clock signals when a zero delay mode of operation is in effect. Always AC couple into these pins. When not is use leave FDBK unconnected and connect FDBKB to ground.", 6 FDBKB (in) "These pins form a differential input for feedback clock signals when a zero delay mode of operation is in effect. Always AC couple into these pins. When not is use leave FDBK unconnected and connect FDBKB to ground.", 7 VDD (power) "Core Supply Voltage", 8 INTR (oc), 9 CLK3B (out) "Output Clock B for Channel 3", 10 CLK3 (out), 11 VDDO3 (power) "Output Clock Supply Voltage", 12 GND (power) "Ground.", 13 CLK2B (out) "Output Clock B for Channel 2", 14 CLK2 (out), 15 VDDO2 (power) "Output Clock Supply Voltage.", 16 VDDO1 (power) "Output Clock Supply Voltage.", 17 CLK1B (out) "Output Clock B for Channel 1", 18 CLK1 (out), 19 OEB (in) "Output Enable Low", 20 VDDO0 (power) "Output Clock Supply Voltage.", 21 CLK0B (out) "Output Clock B for Channel 0", 22 CLK0 (out), 23 RSVDGND (power) "Ground.", 24 VDD (power) "Core Supply Voltage.", 25 GND (power) "Ground Pad."

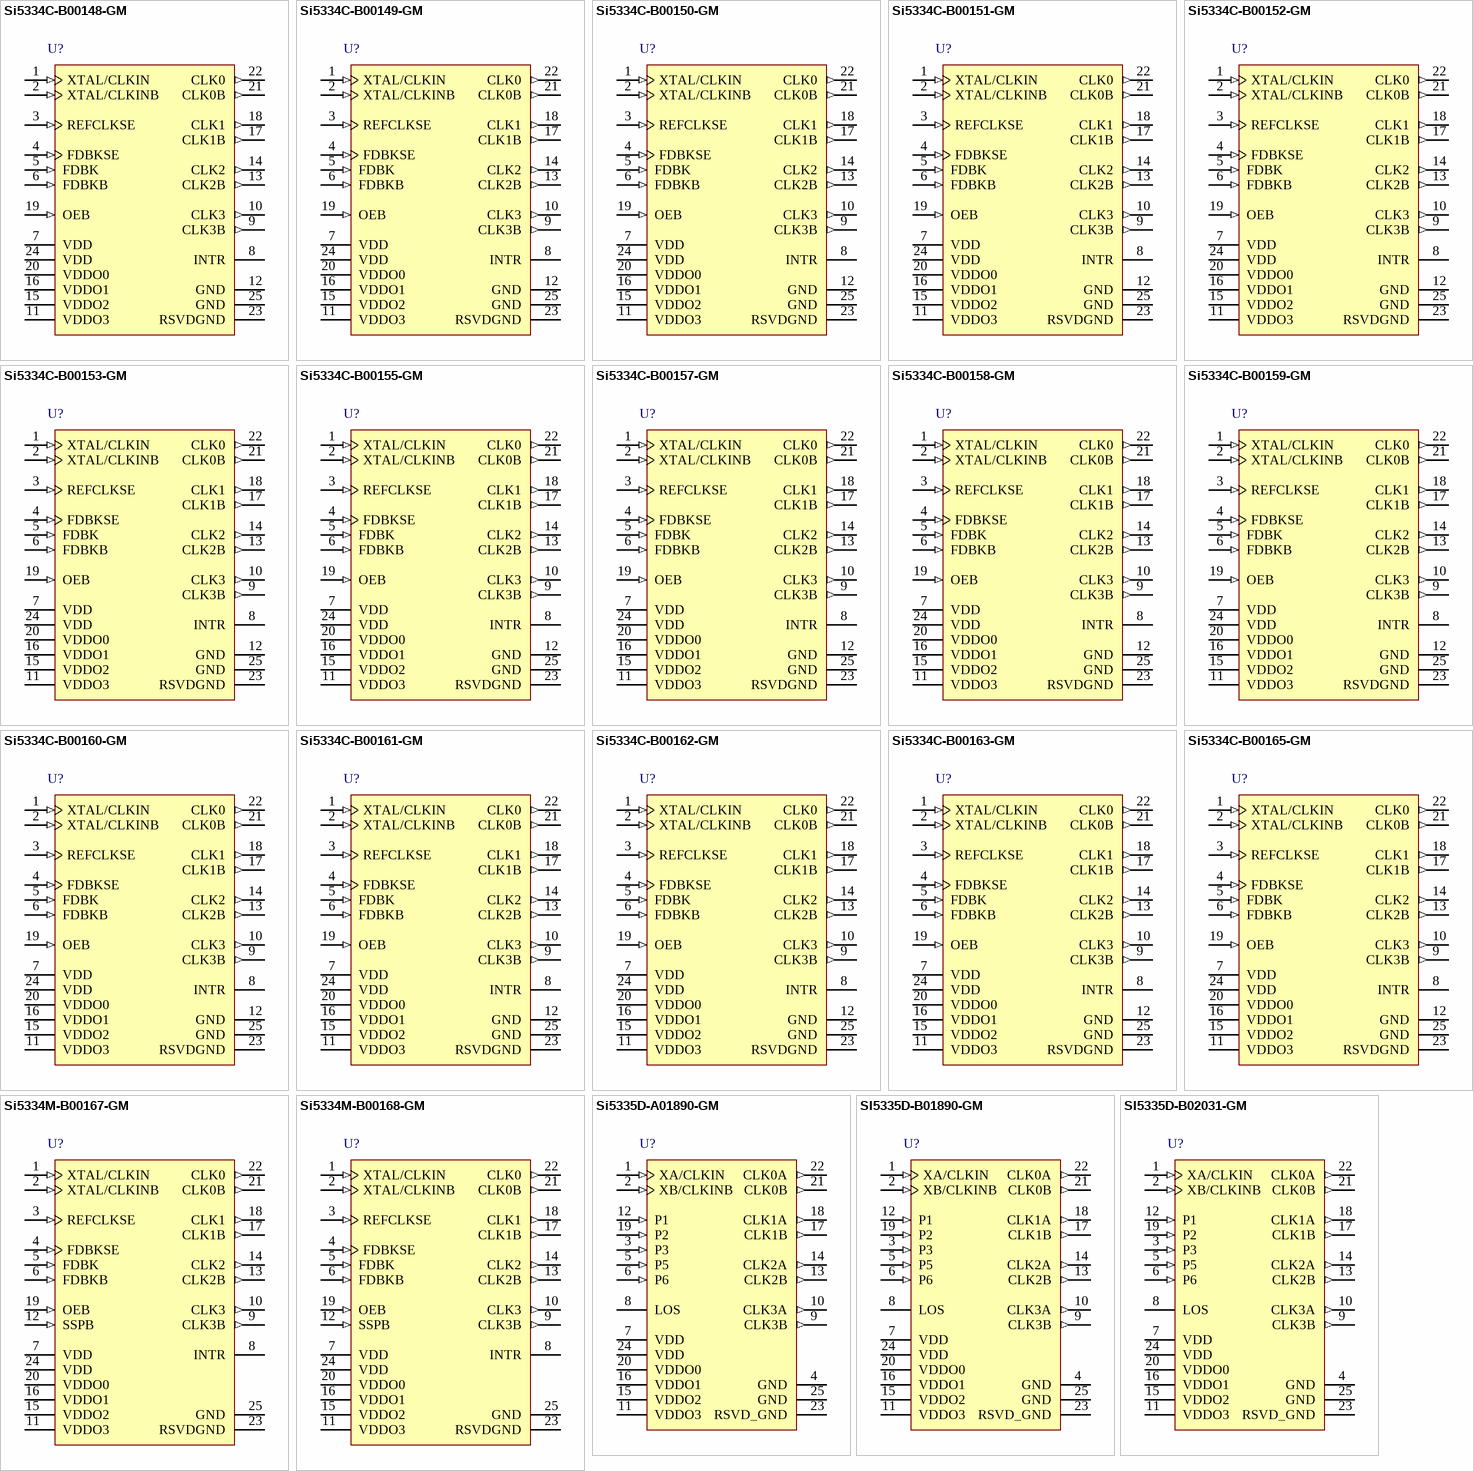
[diagram p21: symbols Si5334C-B00148-GM to SI5335D-B02031-GM]

## Si5334C-B00148-GM
designator U?
Pin-Controlled Any-Frequency, Any-Output Quad Clock Generator, 1.8 / 2.5 / 3.3 V, 0.16 to 200 MHz Output, -40 to 85 degC, 24-pin QFN; Manufacturer: Silicon Labs; PartNumber: Si5334C-B00148-GM; Output Format: LVPECL; LVDS; LVCMOS; HCSL; SSTL; HSTL; Reference Inputs: 1; VDD: 1.8 V; 2.5 V; 3.3 V; Sub-Family: Clock Generators; DatasheetVersion: Rev. 1.1; PackageReference: QFN-24; PackageDescription: 24-Pin Quad-Flat No-Leads Package, Body 4 x 4 mm, Pitch 0.5 mm; Output Frequency (MHz): 0.16 to 200; Mounting Technology: Surface Mount; Code_JEDEC: MO-220; Code_IPC: J-STD-020; ComponentLink1Description: Manufacturer URL; ComponentLink1URL: http://www.silabs.com/; ComponentLink2Description: Datasheet; ComponentLink2URL: http://www.silabs.com/Support%20Documents/TechnicalDocs/Si5334.pdf; ComponentLink3Description: Package Specification; ComponentLink3URL: http://www.silabs.com/Support%20Documents/TechnicalDocs/Si5330.pdf
footprint SLAB-QFN-24-2500x2500TP_N (QFN, 24-Leads, Body 4x4mm, Pitch 0.5mm, Thermal Pad 2.5x2.5mm, IPC Medium Density)
footprint SLAB-QFN-24-2500x2500TP_L (QFN, 24-Leads, Body 4x4mm, Pitch 0.5mm, Thermal Pad 2.5x2.5mm, IPC High Density)
footprint SLAB-QFN-24-2500x2500TP_M (QFN, 24-Leads, Body 4x4mm, Pitch 0.5mm, Thermal Pad 2.5x2.5mm, IPC Low Density)
pins: 1 XTAL/CLKIN (in) "These pins are used as the main differential clock input or as the XTAL input.", 2 XTAL/CLKINB (in) "These pins are used as the main differential clock input or as the XTAL input.", 3 REFCLKSE (in) "High impedance input for single-ended clock signals such as CMOS. The input should be dc-coupled.", 4 FDBKSE (in) "High Impedance input for single-ended clock signals, such as CMOS, when the zero delay mode of operation is required. This input should be dc-coupled.", 5 FDBK (in) "These pins form a differential input for feedback clock signals when a zero delay mode of operation is in effect. Always AC couple into these pins. When not is use leave FDBK unconnected and connect FDBKB to ground.", 6 FDBKB (in) "These pins form a differential input for feedback clock signals when a zero delay mode of operation is in effect. Always AC couple into these pins. When not is use leave FDBK unconnected and connect FDBKB to ground.", 7 VDD (power) "Core Supply Voltage", 8 INTR (oc), 9 CLK3B (out) "Output Clock B for Channel 3", 10 CLK3 (out), 11 VDDO3 (power) "Output Clock Supply Voltage", 12 GND (power) "Ground.", 13 CLK2B (out) "Output Clock B for Channel 2", 14 CLK2 (out), 15 VDDO2 (power) "Output Clock Supply Voltage.", 16 VDDO1 (power) "Output Clock Supply Voltage.", 17 CLK1B (out) "Output Clock B for Channel 1", 18 CLK1 (out), 19 OEB (in) "Output Enable Low", 20 VDDO0 (power) "Output Clock Supply Voltage.", 21 CLK0B (out) "Output Clock B for Channel 0", 22 CLK0 (out), 23 RSVDGND (power) "Ground.", 24 VDD (power) "Core Supply Voltage.", 25 GND (power) "Ground Pad."

## Si5334C-B00149-GM
designator U?
Pin-Controlled Any-Frequency, Any-Output Quad Clock Generator, 1.8 / 2.5 / 3.3 V, 0.16 to 200 MHz Output, -40 to 85 degC, 24-pin QFN; Manufacturer: Silicon Labs; PartNumber: Si5334C-B00149-GM; Output Format: LVPECL; LVDS; LVCMOS; HCSL; SSTL; HSTL; Reference Inputs: 1; VDD: 1.8 V; 2.5 V; 3.3 V; Sub-Family: Clock Generators; DatasheetVersion: Rev. 1.1; PackageReference: QFN-24; PackageDescription: 24-Pin Quad-Flat No-Leads Package, Body 4 x 4 mm, Pitch 0.5 mm; Output Frequency (MHz): 0.16 to 200; Mounting Technology: Surface Mount; Code_JEDEC: MO-220; Code_IPC: J-STD-020; ComponentLink1Description: Manufacturer URL; ComponentLink1URL: http://www.silabs.com/; ComponentLink2Description: Datasheet; ComponentLink2URL: http://www.silabs.com/Support%20Documents/TechnicalDocs/Si5334.pdf; ComponentLink3Description: Package Specification; ComponentLink3URL: http://www.silabs.com/Support%20Documents/TechnicalDocs/Si5330.pdf
footprint SLAB-QFN-24-2500x2500TP_N (QFN, 24-Leads, Body 4x4mm, Pitch 0.5mm, Thermal Pad 2.5x2.5mm, IPC Medium Density)
footprint SLAB-QFN-24-2500x2500TP_L (QFN, 24-Leads, Body 4x4mm, Pitch 0.5mm, Thermal Pad 2.5x2.5mm, IPC High Density)
footprint SLAB-QFN-24-2500x2500TP_M (QFN, 24-Leads, Body 4x4mm, Pitch 0.5mm, Thermal Pad 2.5x2.5mm, IPC Low Density)
pins: 1 XTAL/CLKIN (in) "These pins are used as the main differential clock input or as the XTAL input.", 2 XTAL/CLKINB (in) "These pins are used as the main differential clock input or as the XTAL input.", 3 REFCLKSE (in) "High impedance input for single-ended clock signals such as CMOS. The input should be dc-coupled.", 4 FDBKSE (in) "High Impedance input for single-ended clock signals, such as CMOS, when the zero delay mode of operation is required. This input should be dc-coupled.", 5 FDBK (in) "These pins form a differential input for feedback clock signals when a zero delay mode of operation is in effect. Always AC couple into these pins. When not is use leave FDBK unconnected and connect FDBKB to ground.", 6 FDBKB (in) "These pins form a differential input for feedback clock signals when a zero delay mode of operation is in effect. Always AC couple into these pins. When not is use leave FDBK unconnected and connect FDBKB to ground.", 7 VDD (power) "Core Supply Voltage", 8 INTR (oc), 9 CLK3B (out) "Output Clock B for Channel 3", 10 CLK3 (out), 11 VDDO3 (power) "Output Clock Supply Voltage", 12 GND (power) "Ground.", 13 CLK2B (out) "Output Clock B for Channel 2", 14 CLK2 (out), 15 VDDO2 (power) "Output Clock Supply Voltage.", 16 VDDO1 (power) "Output Clock Supply Voltage.", 17 CLK1B (out) "Output Clock B for Channel 1", 18 CLK1 (out), 19 OEB (in) "Output Enable Low", 20 VDDO0 (power) "Output Clock Supply Voltage.", 21 CLK0B (out) "Output Clock B for Channel 0", 22 CLK0 (out), 23 RSVDGND (power) "Ground.", 24 VDD (power) "Core Supply Voltage.", 25 GND (power) "Ground Pad."

## Si5334C-B00150-GM
designator U?
Pin-Controlled Any-Frequency, Any-Output Quad Clock Generator, 1.8 / 2.5 / 3.3 V, 0.16 to 200 MHz Output, -40 to 85 degC, 24-pin QFN; Manufacturer: Silicon Labs; PartNumber: Si5334C-B00150-GM; Output Format: LVPECL; LVDS; LVCMOS; HCSL; SSTL; HSTL; Reference Inputs: 1; VDD: 1.8 V; 2.5 V; 3.3 V; Sub-Family: Clock Generators; DatasheetVersion: Rev. 1.1; PackageReference: QFN-24; PackageDescription: 24-Pin Quad-Flat No-Leads Package, Body 4 x 4 mm, Pitch 0.5 mm; Output Frequency (MHz): 0.16 to 200; Mounting Technology: Surface Mount; Code_JEDEC: MO-220; Code_IPC: J-STD-020; ComponentLink1Description: Manufacturer URL; ComponentLink1URL: http://www.silabs.com/; ComponentLink2Description: Datasheet; ComponentLink2URL: http://www.silabs.com/Support%20Documents/TechnicalDocs/Si5334.pdf; ComponentLink3Description: Package Specification; ComponentLink3URL: http://www.silabs.com/Support%20Documents/TechnicalDocs/Si5330.pdf
footprint SLAB-QFN-24-2500x2500TP_N (QFN, 24-Leads, Body 4x4mm, Pitch 0.5mm, Thermal Pad 2.5x2.5mm, IPC Medium Density)
footprint SLAB-QFN-24-2500x2500TP_L (QFN, 24-Leads, Body 4x4mm, Pitch 0.5mm, Thermal Pad 2.5x2.5mm, IPC High Density)
footprint SLAB-QFN-24-2500x2500TP_M (QFN, 24-Leads, Body 4x4mm, Pitch 0.5mm, Thermal Pad 2.5x2.5mm, IPC Low Density)
pins: 1 XTAL/CLKIN (in) "These pins are used as the main differential clock input or as the XTAL input.", 2 XTAL/CLKINB (in) "These pins are used as the main differential clock input or as the XTAL input.", 3 REFCLKSE (in) "High impedance input for single-ended clock signals such as CMOS. The input should be dc-coupled.", 4 FDBKSE (in) "High Impedance input for single-ended clock signals, such as CMOS, when the zero delay mode of operation is required. This input should be dc-coupled.", 5 FDBK (in) "These pins form a differential input for feedback clock signals when a zero delay mode of operation is in effect. Always AC couple into these pins. When not is use leave FDBK unconnected and connect FDBKB to ground.", 6 FDBKB (in) "These pins form a differential input for feedback clock signals when a zero delay mode of operation is in effect. Always AC couple into these pins. When not is use leave FDBK unconnected and connect FDBKB to ground.", 7 VDD (power) "Core Supply Voltage", 8 INTR (oc), 9 CLK3B (out) "Output Clock B for Channel 3", 10 CLK3 (out), 11 VDDO3 (power) "Output Clock Supply Voltage", 12 GND (power) "Ground.", 13 CLK2B (out) "Output Clock B for Channel 2", 14 CLK2 (out), 15 VDDO2 (power) "Output Clock Supply Voltage.", 16 VDDO1 (power) "Output Clock Supply Voltage.", 17 CLK1B (out) "Output Clock B for Channel 1", 18 CLK1 (out), 19 OEB (in) "Output Enable Low", 20 VDDO0 (power) "Output Clock Supply Voltage.", 21 CLK0B (out) "Output Clock B for Channel 0", 22 CLK0 (out), 23 RSVDGND (power) "Ground.", 24 VDD (power) "Core Supply Voltage.", 25 GND (power) "Ground Pad."